# Altium schematic symbol library R0603.SchLib: 105 symbols (part 1 of 2)
Pins are listed as number, name and electrical type; pins without a type are passive.

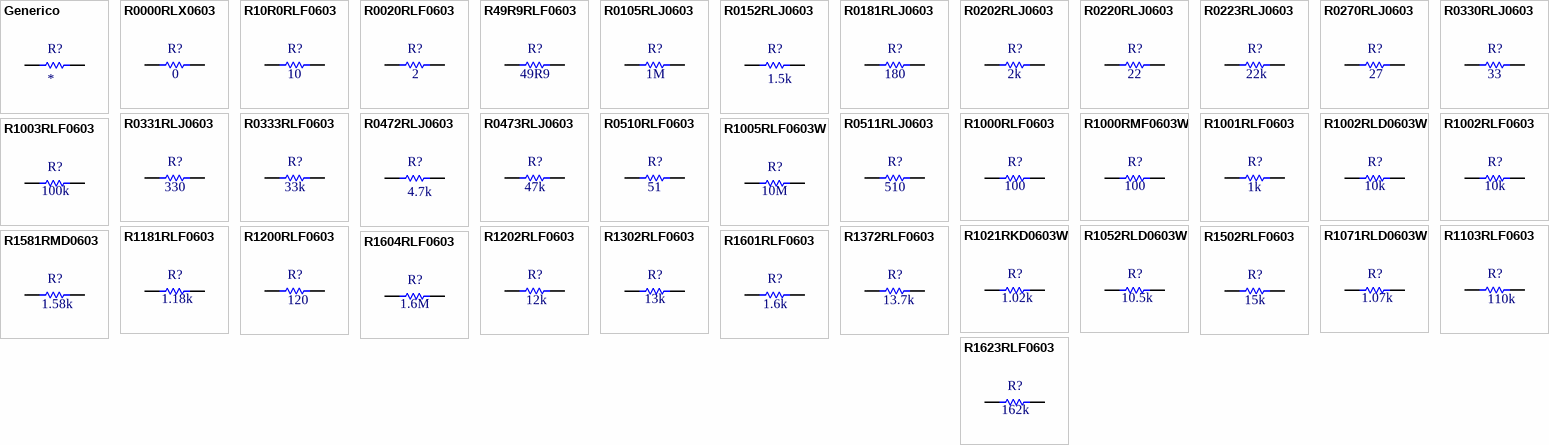
[diagram p0: symbols Generico to R1623RLF0603]

## Generico
designator R?
Frequency: NC; Manufacturer Part Number: *; Working Temperature: *; Temperature Coefficient: *; Mounting: *; Short Description: *; Power: *; Ratings: *; Type: NC; Alternate Part Number 1: *; Alternate Part Number 2: *; Manufacturer: *; Tolerance: *; Current: NC; Revision Date: *; Package Reference: *; Voltage: NC; Value: *
footprint R0603 (Footprint not found)
pins: 1, 2

## R0000RLX0603
designator R?  value 0
0 Ohms Jumper 0.1W, 1/10W Chip Resistor 0603 (1608 Metric) Automotive AEC-Q200 Thick Film; Manufacturer Part Number: ERJ-3GEY0R00V; Manufacturer: Panasonic Electronic Components; Working Temperature: -55°C ~ 155°C; Short Description: RES SMD 0 OHM JUMPER 1/10W 0603; Ratings: REACH, ROHS3, AEC-Q200; Frequency: NC; Temperature Coefficient: *; Mounting: SMT; Power: 1/10W; Type: NC; Alternate Part Number 1: *; Alternate Part Number 2: *; Tolerance: *; Current: NC; Revision Date: 02/08/21; Package Reference: 0603; Voltage: NC
footprint R0603 (Footprint not found)
pins: 1, 2

## R10R0RLF0603
designator R?  value 10
10 Ohms ±1% 0.1W, 1/10W Chip Resistor 0603 (1608 Metric) Automotive AEC-Q200 Thick Film; Manufacturer Part Number: ERJ-3EKF10R0V; Manufacturer: Panasonic Electronic Components; Working Temperature: -55°C ~ 155°C; Temperature Coefficient: ±100ppm/°C; Short Description: RES SMD 10 OHM 1% 1/10W 0603; Ratings: REACH, ROHS3, AEC-Q200; Frequency: NC; Mounting: SMT; Power: 1/10W; Type: NC; Alternate Part Number 1: *; Alternate Part Number 2: *; Tolerance: ±1%; Current: NC; Revision Date: 02/08/21; Package Reference: 0603; Voltage: NC
footprint R0603 (Footprint not found)
pins: 1, 2

## R0020RLF0603
designator R?  value 2
2 Ohms ±1% 0.1W, 1/10W Chip Resistor 0603 (1608 Metric) Automotive AEC-Q200 Thick Film; Manufacturer Part Number: CRCW06032R00FNEA; Manufacturer: Vishay Dale; Working Temperature: -55°C ~ 155°C; Temperature Coefficient: ±100ppm/°C; Short Description: RES SMD 2 OHM 1% 1/10W 0603; Ratings: REACH, ROHS3, AEC-Q200; Frequency: NC; Mounting: SMT; Power: 1/10W; Type: NC; Alternate Part Number 1: *; Alternate Part Number 2: *; Tolerance: ±1%; Current: NC; Revision Date: 02/08/21; Package Reference: 0603; Voltage: NC
footprint R0603 (Footprint not found)
pins: 1, 2

## R49R9RLF0603
designator R?  value 49R9
49.9 Ohms ±1% 0.1W, 1/10W Chip Resistor 0603 (1608 Metric) Automotive AEC-Q200 Thick Film; Manufacturer Part Number: ERJ-3EKF49R9V; Manufacturer: Panasonic Electronic Components; Working Temperature: -55°C ~ 155°C; Temperature Coefficient: ±100ppm/°C; Short Description: RES SMD 49.9 OHM 1% 1/10W 0603; Ratings: REACH, ROHS3, AEC-Q200; Frequency: NC; Mounting: SMT; Power: 1/10W; Type: NC; Alternate Part Number 1: *; Alternate Part Number 2: *; Tolerance: ±1%; Current: NC; Revision Date: 18/04/23; Package Reference: 0603; Voltage: NC
footprint R0603 (Footprint not found)
pins: 1, 2

## R0105RLJ0603
designator R?  value 1M
1 MOhms ±5% 0.1W, 1/10W Chip Resistor 0603 (1608 Metric) Automotive AEC-Q200 Thick Film; Manufacturer Part Number: ERJ-3GEYJ105V; Manufacturer: Panasonic Electronic Components; Working Temperature: -55°C ~ 155°C; Temperature Coefficient: ±200ppm/°C; Short Description: RES SMD 1M OHM 5% 1/10W 0603; Ratings: REACH, ROHS3, AEC-Q200; Frequency: NC; Mounting: SMT; Power: 1/10W; Type: NC; Alternate Part Number 1: *; Alternate Part Number 2: *; Tolerance: ±5%; Current: NC; Revision Date: 02/08/21; Package Reference: 0603; Voltage: NC
footprint R0603 (Footprint not found)
pins: 1, 2

## R0152RLJ0603
designator R?  value 1.5k
1.5 kOhms ±5% 0.1W, 1/10W Chip Resistor 0603 (1608 Metric) Automotive AEC-Q200 Thick Film; Manufacturer Part Number: ERJ-3GEYJ152V; Manufacturer: Panasonic Electronic Components; Working Temperature: -55°C ~ 155°C; Temperature Coefficient: ±200ppm/°C; Short Description: RES SMD 1.5K OHM 5% 1/10W 0603; Ratings: REACH, ROHS3, AEC-Q200; Frequency: NC; Mounting: SMT; Power: 1/10W; Type: NC; Alternate Part Number 1: *; Alternate Part Number 2: *; Tolerance: ±5%; Current: NC; Revision Date: 02/08/21; Package Reference: 0603; Voltage: NC
footprint R0603 (Footprint not found)
pins: 1, 2

## R0181RLJ0603
designator R?  value 180
180 Ohms ±5% 0.1W, 1/10W Chip Resistor 0603 (1608 Metric) Automotive AEC-Q200 Thick Film; Manufacturer Part Number: ERJ-3GEYJ181V; Manufacturer: Panasonic Electronic Components; Working Temperature: -55°C ~ 155°C; Temperature Coefficient: ±200ppm/°C; Short Description: RES SMD 180 OHM 5% 1/10W 0603; Ratings: REACH, ROHS3, AEC-Q200; Frequency: NC; Mounting: SMT; Power: 1/10W; Type: NC; Alternate Part Number 1: *; Alternate Part Number 2: *; Tolerance: ±5%; Current: NC; Revision Date: 02/08/21; Package Reference: 0603; Voltage: NC
footprint R0603 (Footprint not found)
pins: 1, 2

## R0202RLJ0603
designator R?  value 2k
2 kOhms ±5% 0.1W, 1/10W Chip Resistor 0603 (1608 Metric) Automotive AEC-Q200 Thick Film; Manufacturer Part Number: ERJ-3GEYJ202V; Manufacturer: Panasonic Electronic Components; Working Temperature: -55°C ~ 155°C; Temperature Coefficient: ±200ppm/°C; Short Description: RES SMD 2K OHM 5% 1/10W 0603; Ratings: REACH, ROHS3, AEC-Q200; Frequency: NC; Mounting: SMT; Power: 1/10W; Type: NC; Alternate Part Number 1: *; Alternate Part Number 2: *; Tolerance: ±5%; Current: NC; Revision Date: 02/08/21; Package Reference: 0603; Voltage: NC
footprint R0603 (Footprint not found)
pins: 1, 2

## R0220RLJ0603
designator R?  value 22
22 Ohms ±5% 0.1W, 1/10W Chip Resistor 0603 (1608 Metric) Automotive AEC-Q200 Thick Film; Manufacturer Part Number: ERJ-3GEYJ220V; Manufacturer: Panasonic Electronic Components; Working Temperature: -55°C ~ 155°C; Temperature Coefficient: ±200ppm/°C; Short Description: RES SMD 22 OHM 5% 1/10W 0603; Ratings: REACH, ROHS3, AEC-Q200; Frequency: NC; Mounting: SMT; Power: 1/10W; Type: NC; Alternate Part Number 1: *; Alternate Part Number 2: *; Tolerance: ±5%; Current: NC; Revision Date: 02/08/21; Package Reference: 0603; Voltage: NC
footprint R0603 (Footprint not found)
pins: 1, 2

## R0223RLJ0603
designator R?  value 22k
22 kOhms ±5% 0.1W, 1/10W Chip Resistor 0603 (1608 Metric) Automotive AEC-Q200 Thick Film; Manufacturer Part Number: ERJ-3GEYJ223V; Manufacturer: Panasonic Electronic Components; Working Temperature: -55°C ~ 155°C; Temperature Coefficient: ±200ppm/°C; Short Description: RES SMD 22K OHM 5% 1/10W 0603; Ratings: REACH, ROHS3, AEC-Q200; Frequency: NC; Mounting: SMT; Power: 1/10W; Type: NC; Alternate Part Number 1: *; Alternate Part Number 2: *; Tolerance: ±5%; Current: NC; Revision Date: 02/08/21; Package Reference: 0603; Voltage: NC
footprint R0603 (Footprint not found)
pins: 1, 2

## R0270RLJ0603
designator R?  value 27
27 Ohms ±5% 0.1W, 1/10W Chip Resistor 0603 (1608 Metric) Automotive AEC-Q200 Thick Film; Manufacturer Part Number: ERJ-3GEYJ270V; Manufacturer: Panasonic Electronic Components; Working Temperature: -55°C ~ 155°C; Temperature Coefficient: ±200ppm/°C; Short Description: RES SMD 27 OHM 5% 1/10W 0603; Ratings: REACH, ROHS3, AEC-Q200; Frequency: NC; Mounting: SMT; Power: 1/10W; Type: NC; Alternate Part Number 1: *; Alternate Part Number 2: *; Tolerance: ±5%; Current: NC; Revision Date: 02/08/21; Package Reference: 0603; Voltage: NC
footprint R0603 (Footprint not found)
pins: 1, 2

## R0330RLJ0603
designator R?  value 33
33 Ohms ±5% 0.1W, 1/10W Chip Resistor 0603 (1608 Metric) Automotive AEC-Q200 Thick Film; Manufacturer Part Number: ERJ-3GEYJ330V; Manufacturer: Panasonic Electronic Components; Working Temperature: -55°C ~ 155°C; Temperature Coefficient: ±200ppm/°C; Short Description: RES SMD 33 OHM 5% 1/10W 0603; Ratings: REACH, ROHS3, AEC-Q200; Frequency: NC; Mounting: SMT; Power: 1/10W; Type: NC; Alternate Part Number 1: *; Alternate Part Number 2: *; Tolerance: ±5%; Current: NC; Revision Date: 02/08/21; Package Reference: 0603; Voltage: NC
footprint R0603 (Footprint not found)
pins: 1, 2

## R0331RLJ0603
designator R?  value 330
330 Ohms ±5% 0.1W, 1/10W Chip Resistor 0603 (1608 Metric) Automotive AEC-Q200 Thick Film; Manufacturer Part Number: ERJ-3GEYJ331V; Manufacturer: Panasonic Electronic Components; Working Temperature: -55°C ~ 155°C; Temperature Coefficient: ±200ppm/°C; Short Description: RES SMD 330 OHM 5% 1/10W 0603; Ratings: REACH, ROHS3, AEC-Q200; Frequency: NC; Mounting: SMT; Power: 1/10W; Type: NC; Alternate Part Number 1: *; Alternate Part Number 2: *; Tolerance: ±5%; Current: NC; Revision Date: 02/08/21; Package Reference: 0603; Voltage: NC
footprint R0603 (Footprint not found)
pins: 1, 2

## R0333RLF0603
designator R?  value 33k
33 kOhms ±1% 0.1W, 1/10W Chip Resistor 0603 (1608 Metric) Automotive AEC-Q200 Thick Film; Manufacturer Part Number: RMCF0603FT33K0; Manufacturer: Stackpole Electronics Inc; Working Temperature: -55°C ~ 155°C; Temperature Coefficient: ±100ppm/°C; Short Description: RES 33K OHM 1% 1/10W 0603; Ratings: REACH, ROHS3, AEC-Q200; Frequency: NC; Mounting: SMT; Power: 1/10W; Type: NC; Alternate Part Number 1: *; Alternate Part Number 2: *; Tolerance: ±1%; Current: NC; Revision Date: 21/09/21; Package Reference: 0603; Voltage: NC
footprint R0603 (Footprint not found)
pins: 1, 2

## R0472RLJ0603
designator R?  value 4.7k
4.7 kOhms ±5% 0.1W, 1/10W Chip Resistor 0603 (1608 Metric) Automotive AEC-Q200 Thick Film; Manufacturer Part Number: ERJ-3GEYJ472V; Manufacturer: Panasonic Electronic Components; Working Temperature: -55°C ~ 155°C; Temperature Coefficient: ±200ppm/°C; Short Description: RES SMD 4.7K OHM 5% 1/10W 0603; Ratings: REACH, ROHS3, AEC-Q200; Frequency: NC; Mounting: SMT; Power: 1/10W; Type: NC; Alternate Part Number 1: *; Alternate Part Number 2: *; Tolerance: ±5%; Current: NC; Revision Date: 20/08/21; Package Reference: 0603; Voltage: NC
footprint R0603 (Footprint not found)
pins: 1, 2

## R0473RLJ0603
designator R?  value 47k
47 kOhms ±5% 0.1W, 1/10W Chip Resistor 0603 (1608 Metric) Automotive AEC-Q200 Thick Film; Manufacturer Part Number: ERJ-3GEYJ473V; Manufacturer: Panasonic Electronic Components; Working Temperature: -55°C ~ 155°C; Temperature Coefficient: ±200ppm/°C; Short Description: RES SMD 47K OHM 5% 1/10W 0603; Ratings: REACH, ROHS3, AEC-Q200; Frequency: NC; Mounting: SMT; Power: 1/10W; Type: NC; Alternate Part Number 1: *; Alternate Part Number 2: *; Tolerance: ±5%; Current: NC; Revision Date: 02/08/21; Package Reference: 0603; Voltage: NC
footprint R0603 (Footprint not found)
pins: 1, 2

## R0510RLF0603
designator R?  value 51
51 Ohms ±1% 0.1W, 1/10W Chip Resistor 0603 (1608 Metric) Automotive AEC-Q200 Thick Film; Manufacturer Part Number: ERJ-3EKF51R0V; Manufacturer: Panasonic Electronic Components; Working Temperature: -55°C ~ 155°C; Temperature Coefficient: ±100ppm/°C; Short Description: RES SMD 51 OHM 1% 1/10W 0603; Ratings: REACH, ROHS3, AEC-Q200; Frequency: NC; Mounting: SMT; Power: 1/10W; Type: NC; Alternate Part Number 1: ERJ-3EKF51R0V; Alternate Part Number 2: *; Tolerance: ±1%; Current: NC; Revision Date: 02/08/21; Package Reference: 0603; Voltage: NC
footprint R0603 (Footprint not found)
pins: 1, 2

## R0511RLJ0603
designator R?  value 510
510 Ohms ±5% 0.1W, 1/10W Chip Resistor 0603 (1608 Metric) Automotive AEC-Q200 Thick Film; Manufacturer Part Number: ERJ-3GEYJ511V; Manufacturer: Panasonic Electronic Components; Working Temperature: -55°C ~ 155°C; Temperature Coefficient: ±200ppm/°C; Short Description: RES SMD 510 OHM 5% 1/10W 0603; Ratings: REACH, ROHS3, AEC-Q200; Frequency: NC; Mounting: SMT; Power: 1/10W; Type: NC; Alternate Part Number 1: *; Alternate Part Number 2: *; Tolerance: ±5%; Current: NC; Revision Date: 02/08/21; Package Reference: 0603; Voltage: NC
footprint R0603 (Footprint not found)
pins: 1, 2

## R1000RLF0603
designator R?  value 100
100 Ohms ±1% 0.1W, 1/10W Chip Resistor 0603 (1608 Metric) Automotive AEC-Q200 Thick Film; Manufacturer Part Number: ERJ-3EKF1000V; Manufacturer: Panasonic Electronic Components; Working Temperature: -55°C ~ 155°C; Temperature Coefficient: ±100ppm/°C; Short Description: RES SMD 100 OHM 5% 1/10W 0603; Ratings: REACH, ROHS3, AEC-Q200; Frequency: NC; Mounting: SMT; Power: 1/10W; Type: NC; Alternate Part Number 1: *; Alternate Part Number 2: *; Tolerance: ±1%; Current: NC; Revision Date: 02/08/21; Package Reference: 0603; Voltage: NC
footprint R0603 (Footprint not found)
pins: 1, 2

## R1000RMF0603W
designator R?  value 100
100 Ohms ±1% 0.125W, 1/8W Chip Resistor 0603 (1608 Metric) Anti-Sulfur Thin Film; Manufacturer Part Number: RNCP0603FTD100R; Manufacturer: Stackpole Electronics Inc; Working Temperature: -55°C ~ 155°C; Temperature Coefficient: ±100ppm/°C; Short Description: RES 100 OHM 1% 1/8W 0603; Ratings: REACH, ROHS3; Frequency: NC; Mounting: SMT; Power: 1/8W; Type: NC; Alternate Part Number 1: *; Alternate Part Number 2: *; Tolerance: ±1%; Current: NC; Revision Date: 16/11/21; Package Reference: 0603; Voltage: NC
footprint R0603 (Footprint not found)
pins: 1, 2

## R1001RLF0603
designator R?  value 1k
1 kOhms ±1% 0.1W, 1/10W Chip Resistor 0603 (1608 Metric) Automotive AEC-Q200 Thick Film; Manufacturer Part Number: ERJ-3EKF1001V; Manufacturer: Panasonic Electronic Components; Working Temperature: -55°C ~ 155°C; Temperature Coefficient: ±100ppm/°C; Short Description: RES SMD 1K OHM 1% 1/10W 0603; Ratings: REACH, ROHS3, AEC-Q200; Frequency: NC; Mounting: SMT; Power: 1/10W; Type: NC; Alternate Part Number 1: *; Alternate Part Number 2: *; Tolerance: ±1%; Current: NC; Revision Date: 02/08/21; Package Reference: 0603; Voltage: NC
footprint R0603 (Footprint not found)
pins: 1, 2

## R1002RLD0603W
designator R?  value 10k
10 kOhms ±0.5% 0.1W, 1/10W Chip Resistor 0603 (1608 Metric) - Thin Film; Manufacturer Part Number: RT0603DRD0710KL; Manufacturer: Yageo; Working Temperature: -55°C ~ 155°C; Temperature Coefficient: ±25ppm/°C; Short Description: RES SMD 10K OHM 0.5% 1/10W 0603; Ratings: REACH, ROHS3; Frequency: NC; Mounting: SMT; Power: 1/10W; Type: NC; Alternate Part Number 1: *; Alternate Part Number 2: *; Tolerance: ±0.5%; Current: NC; Revision Date: 02/08/21; Package Reference: 0603; Voltage: NC
footprint R0603 (Footprint not found)
pins: 1, 2

## R1002RLF0603
designator R?  value 10k
10 kOhms ±1% 0.1W, 1/10W Chip Resistor 0603 (1608 Metric) Automotive AEC-Q200 Thick Film; Manufacturer Part Number: ERJ-3EKF1002V; Manufacturer: Panasonic Electronic Components; Working Temperature: -55°C ~ 155°C; Temperature Coefficient: ±100ppm/°C; Short Description: RES SMD 10K OHM 1% 1/10W 0603; Ratings: REACH, ROHS3, AEC-Q200; Frequency: NC; Mounting: SMT; Power: 1/10W; Type: NC; Alternate Part Number 1: *; Alternate Part Number 2: *; Tolerance: ±1%; Current: NC; Revision Date: 02/08/21; Package Reference: 0603; Voltage: NC
footprint R0603 (Footprint not found)
pins: 1, 2

## R1003RLF0603
designator R?  value 100k
100 kOhms ±1% 0.1W, 1/10W Chip Resistor 0603 (1608 Metric) Automotive AEC-Q200 Thick Film; Manufacturer Part Number: ERJ-3EKF1003V; Manufacturer: Panasonic Electronic Components; Working Temperature: -55°C ~ 155°C; Temperature Coefficient: ±100ppm/°C; Short Description: RES SMD 100K OHM 1% 1/10W 0603; Ratings: REACH, ROHS3, AEC-Q200; Frequency: NC; Mounting: SMT; Power: 1/10W; Type: NC; Alternate Part Number 1: *; Alternate Part Number 2: *; Tolerance: ±1%; Current: NC; Revision Date: 02/08/21; Package Reference: 0603; Voltage: NC
footprint R0603 (Footprint not found)
pins: 1, 2

## R1005RLF0603W
designator R?  value 10M
10 MOhms ±1% 0.1W, 1/10W Chip Resistor 0603 (1608 Metric) Moisture Resistant Thick Film; Manufacturer Part Number: RC0603FR-0710ML; Manufacturer: Yageo; Working Temperature: -55°C ~ 155°C; Temperature Coefficient: ±100ppm/°C; Short Description: RES SMD 10M OHM 1% 1/10W 0603; Ratings: REACH, ROHS3; Frequency: NC; Mounting: SMT; Power: 1/10W; Type: NC; Alternate Part Number 1: *; Alternate Part Number 2: *; Tolerance: ±1%; Current: NC; Revision Date: 02/08/21; Package Reference: 0603; Voltage: NC
footprint R0603 (Footprint not found)
pins: 1, 2

## R1021RKD0603W
designator R?  value 1.02k
1.02 kOhms ±0.5% 0.063W, 1/16W Chip Resistor 0603 (1608 Metric) - Thin Film; Manufacturer Part Number: RR0816P-1021-D-02H; Manufacturer: Susumu; Working Temperature: -55°C ~ 155°C; Temperature Coefficient: ±25ppm/°C; Short Description: RES SMD 1.02KOHM 0.5% 1/16W 0603; Power: 1/10W; Ratings: REACH, ROHS3; Frequency: NC; Mounting: SMT; Type: NC; Alternate Part Number 1: *; Alternate Part Number 2: *; Tolerance: ±0.5%; Current: NC; Revision Date: 02/08/21; Package Reference: 0603; Voltage: NC
footprint R0603 (Footprint not found)
pins: 1, 2

## R1052RLD0603W
designator R?  value 10.5k  (hidden comment: R1052RLD0603W)
10.5 kOhms ±0.5% 0.1W, 1/10W Chip Resistor 0603 (1608 Metric) - Thin Film; Manufacturer Part Number: RT0603DRD0710K5L; Manufacturer: Yageo; Working Temperature: -55°C ~ 155°C; Temperature Coefficient: ±25ppm/°C; Short Description: RES 10.5K OHM 1/10W .5% 0603; Ratings: REACH, ROHS3; Frequency: NC; Mounting: SMT; Power: 1/10W; Type: NC; Alternate Part Number 1: *; Alternate Part Number 2: *; Tolerance: ±0.5%; Current: NC; Revision Date: 02/08/21; Package Reference: 0603; Voltage: NC
footprint R0603 (Footprint not found)
pins: 1, 2

## R1071RLD0603W
designator R?  value 1.07k
1.07 kOhms ±0.5% 0.1W, 1/10W Chip Resistor 0603 (1608 Metric) - Thin Film; Manufacturer Part Number: RT0603DRD071K07L; Manufacturer: Yageo; Working Temperature: -55°C ~ 155°C; Temperature Coefficient: ±25ppm/°C; Short Description: RES SMD 1.07KOHM 0.5% 1/10W 0603; Ratings: REACH, ROHS3; Frequency: NC; Mounting: SMT; Power: 1/10W; Type: NC; Alternate Part Number 1: *; Alternate Part Number 2: *; Tolerance: ±0.5%; Current: NC; Revision Date: 02/08/21; Package Reference: 0603; Voltage: NC
footprint R0603 (Footprint not found)
pins: 1, 2

## R1103RLF0603
designator R?  value 110k
110 kOhms ±1% 0.1W, 1/10W Chip Resistor 0603 (1608 Metric) Anti-Sulfur, Automotive AEC-Q200 Thick Film; Manufacturer Part Number: ERJ-U03F1103V; Manufacturer: Panasonic Electronic Components; Working Temperature: -55°C ~ 155°C; Temperature Coefficient: ±100ppm/°C; Short Description: RES 110K OHM 1% 1/10W 0603 SMD; Ratings: REACH, ROHS3, AEC-Q200; Frequency: NC; Mounting: SMT; Power: 1/10W; Type: NC; Alternate Part Number 1: *; Alternate Part Number 2: *; Tolerance: ±1%; Current: NC; Revision Date: 20/09/21; Package Reference: 0603; Voltage: NC
footprint R0603 (Footprint not found)
pins: 1, 2

## R1181RLF0603
designator R?  value 1.18k
1.18 kOhms ±1% 0.1W, 1/10W Chip Resistor 0603 (1608 Metric) Automotive AEC-Q200 Thick Film; Manufacturer Part Number: ERJ-3EKF1181V; Manufacturer: Panasonic Electronic Components; Working Temperature: -55°C ~ 155°C; Temperature Coefficient: ±100ppm/°C; Short Description: RES SMD 1.18K OHM 1% 1/10W 0603; Ratings: REACH, ROHS3, AEC-Q200; Frequency: NC; Mounting: SMT; Power: 1/10W; Type: NC; Alternate Part Number 1: *; Alternate Part Number 2: *; Tolerance: ±1%; Current: NC; Revision Date: 02/08/21; Package Reference: 0603; Voltage: NC
footprint R0603 (Footprint not found)
pins: 1, 2

## R1200RLF0603
designator R?  value 120
120 Ohms ±1% 0.1W, 1/10W Chip Resistor 0603 (1608 Metric) Automotive AEC-Q200 Thick Film; Manufacturer Part Number: ERJ-3EKF1200V; Manufacturer: Panasonic Electronic Components; Working Temperature: -55°C ~ 155°C; Temperature Coefficient: ±100ppm/°C; Short Description: RES SMD 120 OHM 1% 1/10W 0603; Ratings: REACH, ROHS3, AEC-Q200; Frequency: NC; Mounting: SMT; Power: 1/10W; Type: NC; Alternate Part Number 1: *; Alternate Part Number 2: *; Tolerance: ±1%; Current: NC; Revision Date: 19/10/22; Package Reference: 0603; Voltage: NC
footprint R0603 (Footprint not found)
pins: 1, 2

## R1202RLF0603
designator R?  value 12k
12 kOhms ±1% 0.1W, 1/10W Chip Resistor 0603 (1608 Metric) Automotive AEC-Q200 Thick Film; Manufacturer Part Number: ERJ-3EKF1202V; Manufacturer: Panasonic Electronic Components; Working Temperature: -55°C ~ 155°C; Temperature Coefficient: ±100ppm/°C; Short Description: RES SMD 12K OHM 1% 1/10W 0603; Ratings: REACH, ROHS3, AEC-Q200; Frequency: NC; Mounting: SMT; Power: 1/10W; Type: NC; Alternate Part Number 1: *; Alternate Part Number 2: *; Tolerance: ±1%; Current: NC; Revision Date: 02/08/21; Package Reference: 0603; Voltage: NC
footprint R0603 (Footprint not found)
pins: 1, 2

## R1302RLF0603
designator R?  value 13k
13 kOhms ±1% 0.1W, 1/10W Chip Resistor 0603 (1608 Metric) Automotive AEC-Q200 Thick Film; Manufacturer Part Number: ERJ-3EKF1302V; Manufacturer: Panasonic Electronic Components; Working Temperature: -55°C ~ 155°C; Temperature Coefficient: ±100ppm/°C; Short Description: RES SMD 13K OHM 1% 1/10W 0603; Ratings: REACH, ROHS3, AEC-Q200; Frequency: NC; Mounting: SMT; Power: 1/10W; Type: NC; Alternate Part Number 1: *; Alternate Part Number 2: *; Tolerance: ±1%; Current: NC; Revision Date: 02/08/21; Package Reference: 0603; Voltage: NC
footprint R0603 (Footprint not found)
pins: 1, 2

## R1372RLF0603
designator R?  value 13.7k
13.7 kOhms ±1% 0.1W, 1/10W Chip Resistor 0603 (1608 Metric) Automotive AEC-Q200 Thick Film; Manufacturer Part Number: RMCF0603FT13K7; Alternate Part Number 1: RCS060313K7FKEA; Manufacturer: Stackpole Electronics Inc; Working Temperature: -55°C ~ 155°C; Temperature Coefficient: ±100ppm/°C; Short Description: RES 13.7K OHM 1% 1/10W 0603; Ratings: REACH, ROHS3, AEC-Q200; Frequency: NC; Mounting: SMT; Power: 1/10W; Type: NC; Alternate Part Number 2: *; Tolerance: ±1%; Current: NC; Revision Date: 21/10/21; Package Reference: 0603; Voltage: NC
footprint R0603 (Footprint not found)
pins: 1, 2

## R1502RLF0603
designator R?  value 15k
15 kOhms ±1% 0.1W, 1/10W Chip Resistor 0603 (1608 Metric) Automotive AEC-Q200 Thick Film; Manufacturer Part Number: ERJ-3EKF1502V; Manufacturer: Panasonic Electronic Components; Working Temperature: -55°C ~ 155°C; Temperature Coefficient: ±100ppm/°C; Short Description: RES 15K OHM 1/10W 1% 0603; Ratings: REACH, ROHS3, AEC-Q200; Frequency: NC; Mounting: SMT; Power: 1/10W; Type: NC; Alternate Part Number 1: *; Alternate Part Number 2: *; Tolerance: ±1%; Current: NC; Revision Date: 02/08/21; Package Reference: 0603; Voltage: NC
footprint R0603 (Footprint not found)
pins: 1, 2

## R1581RMD0603
designator R?  value 1.58k
1.58 kOhms ±0.5% 0.2W, 1/5W Chip Resistor 0603 (1608 Metric) Automotive AEC-Q200, Pulse Withstanding Thick Film; Manufacturer Part Number: ERJ-PB3D1581V; Manufacturer: Panasonic Electronic Components; Working Temperature: -55°C ~ 155°C; Temperature Coefficient: ±25ppm/°C; Short Description: RES SMD 1.58K OHM 0.5% 1/5W 0603; Ratings: REACH, ROHS3, AEC-Q200; Frequency: NC; Mounting: SMT; Power: 1/5W; Type: NC; Alternate Part Number 1: *; Alternate Part Number 2: *; Tolerance: ±0.5%; Current: NC; Revision Date: 02/08/21; Package Reference: 0603; Voltage: NC
footprint R0603 (Footprint not found)
pins: 1, 2

## R1601RLF0603
designator R?  value 1.6k
1.6 kOhms ±1% 0.1W, 1/10W Chip Resistor 0603 (1608 Metric) Automotive AEC-Q200 Thick Film; Manufacturer Part Number: ERJ-3EKF1601V; Manufacturer: Panasonic Electronic Components; Working Temperature: -55°C ~ 155°C; Temperature Coefficient: ±100ppm/°C; Short Description: RES SMD 1.6K OHM 1% 1/10W 0603; Ratings: REACH, ROHS3, AEC-Q200; Frequency: NC; Mounting: SMT; Power: 1/10W; Type: NC; Alternate Part Number 1: *; Alternate Part Number 2: *; Tolerance: ±1%; Current: NC; Revision Date: 02/08/21; Package Reference: 0603; Voltage: NC
footprint R0603 (Footprint not found)
pins: 1, 2

## R1604RLF0603
designator R?  value 1.6M
1.6 MOhms ±1% 0.1W, 1/10W Chip Resistor 0603 (1608 Metric) Automotive AEC-Q200 Thick Film; Manufacturer Part Number: ERJ-3EKF1604V; Manufacturer: Panasonic Electronic Components; Working Temperature: -55°C ~ 155°C; Temperature Coefficient: ±100ppm/°C; Short Description: RES SMD 1.6M OHM 1% 1/10W 0603; Ratings: REACH, ROHS3, AEC-Q200; Frequency: NC; Mounting: SMT; Power: 1/10W; Type: NC; Alternate Part Number 1: *; Alternate Part Number 2: *; Tolerance: ±1%; Current: NC; Revision Date: 02/08/21; Package Reference: 0603; Voltage: NC
footprint R0603 (Footprint not found)
pins: 1, 2

## R1623RLF0603
designator R?  value 162k
162 kOhms ±1% 0.1W, 1/10W Chip Resistor 0603 (1608 Metric) Automotive AEC-Q200 Thick Film; Manufacturer Part Number: ERJ-3EKF1623V; Manufacturer: Panasonic Electronic Components; Working Temperature: -55°C ~ 155°C; Temperature Coefficient: ±100ppm/°C; Short Description: RES SMD 162K OHM 1% 1/10W 0603; Ratings: REACH, ROHS3, AEC-Q200; Frequency: NC; Mounting: SMT; Power: 1/10W; Type: NC; Alternate Part Number 1: *; Alternate Part Number 2: *; Tolerance: ±1%; Current: NC; Revision Date: 02/08/21; Package Reference: 0603; Voltage: NC
footprint R0603 (Footprint not found)
pins: 1, 2

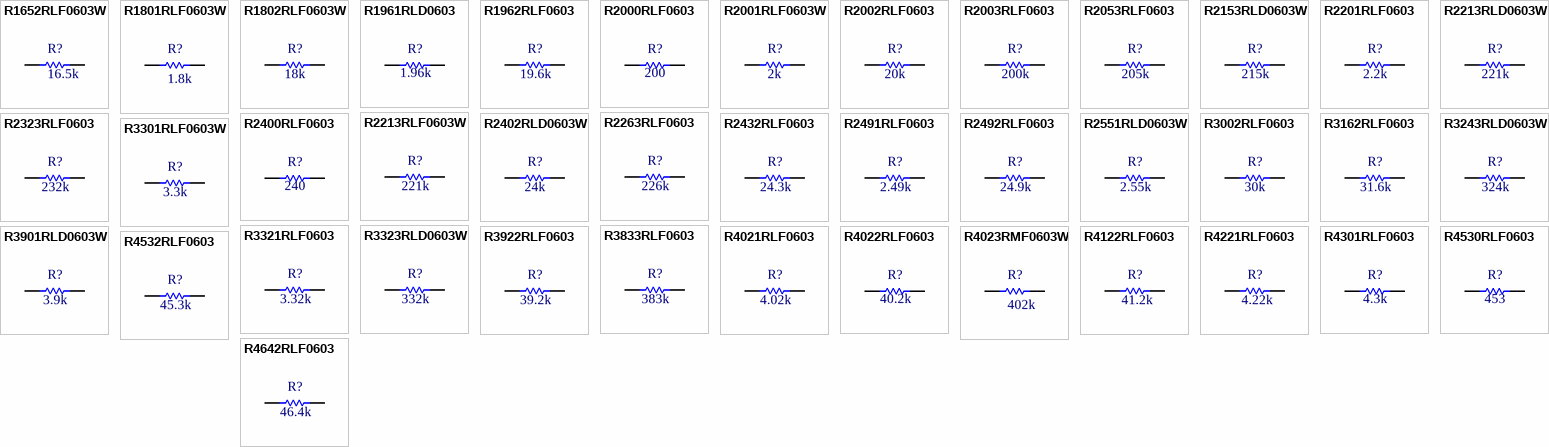
[diagram p1: symbols R1652RLF0603W to R4642RLF0603]

## R1652RLF0603W
designator R?  value 16.5k
16.5 ±1% 0.1W, 1/10W Chip Resistor 0603 (1608 Metric) Moisture Resistant Thick Film; Manufacturer Part Number: RC0603FR-0716K5L; Manufacturer: YAGEO; Working Temperature: -55°C ~ 155°C; Temperature Coefficient: ±100ppm/°C; Short Description: RES 16.5K OHM 1% 1/10W 0603; Ratings: REACH, ROHS3; Frequency: NC; Mounting: SMT; Power: 1/10W; Type: NC; Alternate Part Number 1: *; Alternate Part Number 2: *; Tolerance: ±1%; Current: NC; Revision Date: 20/09/21; Package Reference: 0603; Voltage: NC
footprint R0603 (Footprint not found)
pins: 1, 2

## R1801RLF0603W
designator R?  value 1.8k
1.8 kOhms ±1% 0.1W, 1/10W Chip Resistor 0603 (1608 Metric) Moisture Resistant Thick Film; Manufacturer Part Number: RC0603FR-071K8L; Manufacturer: Yageo; Working Temperature: -55°C ~ 155°C; Temperature Coefficient: ±100ppm/°C; Short Description: RES SMD 1.8K OHM 1% 1/10W 0603; Ratings: REACH, ROHS3; Frequency: NC; Mounting: SMT; Power: 1/10W; Type: NC; Alternate Part Number 1: *; Alternate Part Number 2: *; Tolerance: ±1%; Current: NC; Revision Date: 23/08/21; Package Reference: 0603; Voltage: NC
footprint R0603 (Footprint not found)
pins: 1, 2

## R1802RLF0603W
designator R?  value 18k
18 kOhms ±1% 0.1W, 1/10W Chip Resistor 0603 (1608 Metric) Moisture Resistant Thick Film; Manufacturer Part Number: RC0603FR-0718KL; Manufacturer: Yageo; Working Temperature: -55°C ~ 155°C; Temperature Coefficient: ±100ppm/°C; Short Description: RES SMD 18K OHM 1% 1/10W 0603; Ratings: REACH, ROHS3; Frequency: NC; Mounting: SMT; Power: 1/10W; Type: NC; Alternate Part Number 1: *; Alternate Part Number 2: *; Tolerance: ±1%; Current: NC; Revision Date: 02/08/21; Package Reference: 0603; Voltage: NC
footprint R0603 (Footprint not found)
pins: 1, 2

## R1961RLD0603
designator R?  value 1.96k
1.96 kOhms ±0.5% 0.1W, 1/10W Chip Resistor 0603 (1608 Metric) Automotive AEC-Q200 Thin Film; Manufacturer Part Number: ERA-3AED1961V; Manufacturer: Panasonic Electronic Components; Working Temperature: -55°C ~ 155°C; Temperature Coefficient: ±25ppm/°C; Short Description: RES SMD 1.96KOHM 0.5% 1/10W 0603; Ratings: REACH, ROHS3, AEC-Q200; Frequency: NC; Mounting: SMT; Power: 1/10W; Type: NC; Alternate Part Number 1: *; Alternate Part Number 2: *; Tolerance: ±0.5%; Current: NC; Revision Date: 02/08/21; Package Reference: 0603; Voltage: NC
footprint R0603 (Footprint not found)
pins: 1, 2

## R1962RLF0603
designator R?  value 19.6k
19.6 kOhms ±1% 0.1W, 1/10W Chip Resistor 0603 (1608 Metric) Automotive AEC-Q200 Thick Film; Manufacturer Part Number: ERJ-3EKF1962V; Manufacturer: Panasonic Electronic Components; Working Temperature: -55°C ~ 155°C; Temperature Coefficient: ±100ppm/°C; Short Description: RES SMD 19.6K OHM 1% 1/10W 0603; Ratings: REACH, ROHS3, AEC-Q200; Frequency: NC; Mounting: SMT; Power: 1/10W; Type: NC; Alternate Part Number 1: *; Alternate Part Number 2: *; Tolerance: ±1%; Current: NC; Revision Date: 02/08/21; Package Reference: 0603; Voltage: NC
footprint R0603 (Footprint not found)
pins: 1, 2

## R2000RLF0603
designator R?  value 200
200 Ohms ±1% 0.1W, 1/10W Chip Resistor 0603 (1608 Metric) Automotive AEC-Q200 Thick Film; Manufacturer Part Number: ERJ-3EKF2000V; Manufacturer: Panasonic Electronic Components; Working Temperature: -55°C ~ 155°C; Temperature Coefficient: ±100ppm/°C; Short Description: RES SMD 200 OHM 1% 1/10W 0603; Ratings: REACH, ROHS3, AEC-Q200; Frequency: NC; Mounting: SMT; Power: 1/10W; Type: NC; Alternate Part Number 1: *; Alternate Part Number 2: *; Tolerance: ±1%; Current: NC; Revision Date: 02/08/21; Package Reference: 0603; Voltage: NC
footprint R0603 (Footprint not found)
pins: 1, 2

## R2001RLF0603W
designator R?  value 2k
2 kOhms ±1% 0.1W, 1/10W Chip Resistor 0603 (1608 Metric) Moisture Resistant Thick Film; Manufacturer Part Number: RC0603FR-072KL; Manufacturer: Yageo; Working Temperature: -55°C ~ 155°C; Temperature Coefficient: ±100ppm/°C; Short Description: RES SMD 2K OHM 1% 1/10W 0603; Ratings: REACH, ROHS3; Frequency: NC; Mounting: SMT; Power: 1/10W; Type: NC; Alternate Part Number 1: *; Alternate Part Number 2: *; Tolerance: ±1%; Current: NC; Revision Date: 02/08/21; Package Reference: 0603; Voltage: NC
footprint R0603 (Footprint not found)
pins: 1, 2

## R2002RLF0603
designator R?  value 20k
20 kOhms ±1% 0.1W, 1/10W Chip Resistor 0603 (1608 Metric) Automotive AEC-Q200 Thick Film; Manufacturer Part Number: ERJ-3EKF2002V; Manufacturer: Panasonic Electronic Components; Working Temperature: -55°C ~ 155°C; Temperature Coefficient: ±100ppm/°C; Short Description: RES SMD 20K OHM 1% 1/10W 0603; Ratings: REACH, ROHS3, AEC-Q200; Frequency: NC; Mounting: SMT; Power: 1/10W; Type: NC; Alternate Part Number 1: *; Alternate Part Number 2: *; Tolerance: ±1%; Current: NC; Revision Date: 02/08/21; Package Reference: 0603; Voltage: NC
footprint R0603 (Footprint not found)
pins: 1, 2

## R2003RLF0603
designator R?  value 200k
200 kOhms ±1% 0.1W, 1/10W Chip Resistor 0603 (1608 Metric) Automotive AEC-Q200 Thick Film; Manufacturer Part Number: ERJ-3EKF2003V; Manufacturer: Panasonic Electronic Components; Working Temperature: -55°C ~ 155°C; Temperature Coefficient: ±100ppm/°C; Short Description: RES SMD 200K OHM 1% 1/10W 0603; Ratings: REACH, ROHS3, AEC-Q200; Frequency: NC; Mounting: SMT; Power: 1/10W; Type: NC; Alternate Part Number 1: *; Alternate Part Number 2: *; Tolerance: ±1%; Current: NC; Revision Date: 02/08/21; Package Reference: 0603; Voltage: NC
footprint R0603 (Footprint not found)
pins: 1, 2

## R2053RLF0603
designator R?  value 205k
205 kOhms ±1% 0.1W, 1/10W Chip Resistor 0603 (1608 Metric) Automotive AEC-Q200 Thick Film; Manufacturer Part Number: ERJ-3EKF2053V; Manufacturer: Panasonic Electronic Components; Working Temperature: -55°C ~ 155°C; Temperature Coefficient: ±100ppm/°C; Short Description: RES SMD 205K OHM 1% 1/10W 0603; Ratings: REACH, ROHS3, AEC-Q200; Frequency: NC; Mounting: SMT; Power: 1/10W; Type: NC; Alternate Part Number 1: *; Alternate Part Number 2: *; Tolerance: ±1%; Current: NC; Revision Date: 09/05/23; Package Reference: 0603; Voltage: NC
footprint R0603 (Footprint not found)
pins: 1, 2

## R2153RLD0603W
designator R?  value 215k
215 kOhms ±0.5% 0.1W, 1/10W Chip Resistor 0603 (1608 Metric) - Thin Film; Manufacturer Part Number: RT0603DRD07215KL; Manufacturer: Yageo; Working Temperature: -55°C ~ 155°C; Temperature Coefficient: ±25ppm/°C; Short Description: RES SMD 215K OHM 0.5% 1/10W 0603; Ratings: REACH, ROHS3; Frequency: NC; Mounting: SMT; Power: 1/10W; Type: NC; Alternate Part Number 1: *; Alternate Part Number 2: *; Tolerance: ±0.5%; Current: NC; Revision Date: 02/08/21; Package Reference: 0603; Voltage: NC
footprint R0603 (Footprint not found)
pins: 1, 2

## R2201RLF0603
designator R?  value 2.2k
2.2 kOhms ±1% 0.1W, 1/10W Chip Resistor 0603 (1608 Metric) Automotive AEC-Q200 Thick Film; Manufacturer Part Number: ERJ-3EKF2201V; Manufacturer: Panasonic Electronic Components; Working Temperature: -55°C ~ 155°C; Temperature Coefficient: ±100ppm/°C; Short Description: RES SMD 2.2K OHM 1% 1/10W 0603; Ratings: REACH, ROHS3, AEC-Q200; Frequency: NC; Mounting: SMT; Power: 1/10W; Type: NC; Alternate Part Number 1: *; Alternate Part Number 2: *; Tolerance: ±1%; Current: NC; Revision Date: 02/08/21; Package Reference: 0603; Voltage: NC
footprint R0603 (Footprint not found)
pins: 1, 2

## R2213RLD0603W
designator R?  value 221k
221 kOhms ±0.5% 0.1W, 1/10W Chip Resistor 0603 (1608 Metric) - Thin Film; Manufacturer Part Number: RT0603DRD07221KL; Manufacturer: Yageo; Working Temperature: -55°C ~ 155°C; Temperature Coefficient: ±25ppm/°C; Short Description: RES SMD 221K OHM 0.5% 1/10W 0603; Ratings: REACH, ROHS3; Frequency: NC; Mounting: SMT; Power: 1/10W; Type: NC; Alternate Part Number 1: *; Alternate Part Number 2: *; Tolerance: ±0.5%; Current: NC; Revision Date: 02/08/21; Package Reference: 0603; Voltage: NC
footprint R0603 (Footprint not found)
pins: 1, 2

## R2213RLF0603W
designator R?  value 221k
221 kOhms ±1% 0.1W, 1/10W Chip Resistor 0603 (1608 Metric) Moisture Resistant Thick Film; Manufacturer Part Number: RC0603FR-07221KL; Manufacturer: Yageo; Working Temperature: -55°C ~ 155°C; Temperature Coefficient: ±100ppm/°C; Short Description: RES SMD 221K OHM 1% 1/10W 0603; Ratings: REACH, ROHS3; Frequency: NC; Mounting: SMT; Power: 1/10W; Type: NC; Alternate Part Number 1: *; Alternate Part Number 2: *; Tolerance: ±1%; Current: NC; Revision Date: 02/08/21; Package Reference: 0603; Voltage: NC
footprint R0603 (Footprint not found)
pins: 1, 2

## R2263RLF0603
designator R?  value 226k  (hidden comment: R2263RLF0603)
226 kOhms ±1% 0.1W, 1/10W Chip Resistor 0603 (1608 Metric) Moisture Resistant Thick Film; Manufacturer Part Number: ERJ-3EKF2263V; Manufacturer: Panasonic; Working Temperature: -55°C ~ 155°C; Temperature Coefficient: ±100ppm/°C; Short Description: RES 226K OHM 1/10W 1% 0603; Ratings: REACH, ROHS3; Frequency: NC; Mounting: SMT; Power: 1/10W; Type: NC; Alternate Part Number 1: *; Alternate Part Number 2: *; Tolerance: ±1%; Current: NC; Revision Date: 02/08/21; Package Reference: 0603; Voltage: NC
footprint R0603 (Footprint not found)
pins: 1, 2

## R2323RLF0603
designator R?  value 232k
232 kOhms ±1% 0.1W, 1/10W Chip Resistor 0603 (1608 Metric) Automotive AEC-Q200 Thick Film; Manufacturer Part Number: ERJ-3EKF2323V; Manufacturer: Panasonic Electronic Components; Working Temperature: -55°C ~ 155°C; Temperature Coefficient: ±100ppm/°C; Short Description: RES SMD 232K OHM 1% 1/10W 0603; Ratings: REACH, ROHS3, AEC-Q200; Frequency: NC; Mounting: SMT; Power: 1/10W; Type: NC; Alternate Part Number 1: *; Alternate Part Number 2: *; Tolerance: ±1%; Current: NC; Revision Date: 09/05/23; Package Reference: 0603; Voltage: NC
footprint R0603 (Footprint not found)
pins: 1, 2

## R2400RLF0603
designator R?  value 240
240 Ohms ±1% 0.1W, 1/10W Chip Resistor 0603 (1608 Metric) Automotive AEC-Q200 Thick Film; Manufacturer Part Number: ERJ-3EKF2400V; Manufacturer: Panasonic Electronic Components; Working Temperature: -55°C ~ 155°C; Temperature Coefficient: ±100ppm/°C; Short Description: RES SMD 240 OHM 1% 1/10W 0603; Ratings: REACH, ROHS3, AEC-Q200; Frequency: NC; Mounting: SMT; Power: 1/10W; Type: NC; Alternate Part Number 1: *; Alternate Part Number 2: *; Tolerance: ±1%; Current: NC; Revision Date: 02/08/21; Package Reference: 0603; Voltage: NC
footprint R0603 (Footprint not found)
pins: 1, 2

## R2402RLD0603W
designator R?  value 24k
24 kOhms ±0.5% 0.1W, 1/10W Chip Resistor 0603 (1608 Metric) - Thin Film; Manufacturer Part Number: RT0603DRD0724KL; Manufacturer: Yageo; Working Temperature: -55°C ~ 155°C; Temperature Coefficient: ±25ppm/°C; Short Description: RES SMD 24K OHM 0.5% 1/10W 0603; Ratings: REACH, ROHS3; Frequency: NC; Mounting: SMT; Power: 1/10W; Type: NC; Alternate Part Number 1: *; Alternate Part Number 2: *; Tolerance: ±0.5%; Current: NC; Revision Date: 02/08/21; Package Reference: 0603; Voltage: NC
footprint R0603 (Footprint not found)
pins: 1, 2

## R2432RLF0603
designator R?  value 24.3k
24.3 kOhms ±1% 0.1W, 1/10W Chip Resistor 0603 (1608 Metric) Automotive AEC-Q200 Thick Film; Manufacturer Part Number: ERJ-3EKF2432V; Manufacturer: Panasonic Electronic Components; Working Temperature: -55°C ~ 155°C; Temperature Coefficient: ±100ppm/°C; Short Description: RES SMD 24.3K OHM 1% 1/10W 0603; Ratings: REACH, ROHS3, AEC-Q200; Frequency: NC; Mounting: SMT; Power: 1/10W; Type: NC; Alternate Part Number 1: *; Alternate Part Number 2: *; Tolerance: ±1%; Current: NC; Revision Date: 02/08/21; Package Reference: 0603; Voltage: NC
footprint R0603 (Footprint not found)
pins: 1, 2

## R2491RLF0603
designator R?  value 2.49k
2.49 kOhms ±1% 0.1W, 1/10W Chip Resistor 0603 (1608 Metric) Automotive AEC-Q200 Thick Film; Manufacturer Part Number: ERJ-3EKF2491V; Manufacturer: Panasonic Electronic Components; Working Temperature: -55°C ~ 155°C; Temperature Coefficient: ±100ppm/°C; Short Description: RES SMD 2.49K OHM 1% 1/10W 0603; Ratings: REACH, ROHS3; Frequency: NC; Mounting: SMT; Power: 1/10W; Type: NC; Alternate Part Number 1: *; Alternate Part Number 2: *; Tolerance: ±1%; Current: NC; Revision Date: 11/05/22; Package Reference: 0603; Voltage: NC
footprint R0603 (Footprint not found)
pins: 1, 2

## R2492RLF0603
designator R?  value 24.9k
24.9 kOhms ±1% 0.1W, 1/10W Chip Resistor 0603 (1608 Metric) Automotive AEC-Q200 Thick Film; Manufacturer Part Number: ERJ-3EKF2492V; Manufacturer: Panasonic Electronic Components; Working Temperature: -55°C ~ 155°C; Temperature Coefficient: ±100ppm/°C; Short Description: RES SMD 24.9K OHM 1% 1/10W 0603; Ratings: REACH, ROHS3, AEC-Q200; Frequency: NC; Mounting: SMT; Power: 1/10W; Type: NC; Alternate Part Number 1: *; Alternate Part Number 2: *; Tolerance: ±1%; Current: NC; Revision Date: 02/08/21; Package Reference: 0603; Voltage: NC
footprint R0603 (Footprint not found)
pins: 1, 2

## R2551RLD0603W
designator R?  value 2.55k
2.55 kOhms ±0.5% 0.1W, 1/10W Chip Resistor 0603 (1608 Metric) - Thin Film; Manufacturer Part Number: RT0603DRD072K55L; Manufacturer: Yageo; Working Temperature: -55°C ~ 155°C; Temperature Coefficient: ±25ppm/°C; Short Description: RES SMD 2.55KOHM 0.5% 1/10W 0603; Ratings: REACH, ROHS3; Frequency: NC; Mounting: SMT; Power: 1/10W; Type: NC; Alternate Part Number 1: *; Alternate Part Number 2: *; Tolerance: ±0.5%; Current: NC; Revision Date: 02/08/21; Package Reference: 0603; Voltage: NC
footprint R0603 (Footprint not found)
pins: 1, 2

## R3002RLF0603
designator R?  value 30k
30 kOhms ±1% 0.1W, 1/10W Chip Resistor 0603 (1608 Metric) Automotive AEC-Q200 Thick Film; Manufacturer Part Number: ERJ-3EKF3002V; Manufacturer: Panasonic Electronic Components; Working Temperature: -55°C ~ 155°C; Temperature Coefficient: ±100ppm/°C; Short Description: RES SMD 30K OHM 1% 1/10W 0603; Ratings: REACH, ROHS3, AEC-Q200; Frequency: NC; Mounting: SMT; Power: 1/10W; Type: NC; Alternate Part Number 1: *; Alternate Part Number 2: *; Tolerance: ±1%; Current: NC; Revision Date: 02/08/21; Package Reference: 0603; Voltage: NC
footprint R0603 (Footprint not found)
pins: 1, 2

## R3162RLF0603
designator R?  value 31.6k
31.6 kOhms ±1% 0.1W, 1/10W Chip Resistor 0603 (1608 Metric) Automotive AEC-Q200 Thick Film; Manufacturer Part Number: ERJ-3EKF3162V; Manufacturer: Panasonic Electronic Components; Working Temperature: -55°C ~ 155°C; Temperature Coefficient: ±100ppm/°C; Short Description: RES SMD 31.6K OHM 1% 1/10W 0603; Ratings: REACH, ROHS3, AEC-Q200; Frequency: NC; Mounting: SMT; Power: 1/10W; Type: NC; Alternate Part Number 1: *; Alternate Part Number 2: *; Tolerance: ±1%; Current: NC; Revision Date: 02/08/21; Package Reference: 0603; Voltage: NC
footprint R0603 (Footprint not found)
pins: 1, 2

## R3243RLD0603W
designator R?  value 324k
324 kOhms ±0.5% 0.1W, 1/10W Chip Resistor 0603 (1608 Metric) - Thin Film; Manufacturer Part Number: RT0603DRD07324KL; Manufacturer: Yageo; Working Temperature: -55°C ~ 155°C; Temperature Coefficient: ±25ppm/°C; Short Description: RES SMD 324K OHM 0.5% 1/10W 0603; Ratings: REACH, ROHS3; Frequency: NC; Mounting: SMT; Power: 1/10W; Type: NC; Alternate Part Number 1: *; Alternate Part Number 2: *; Tolerance: ±0.5%; Current: NC; Revision Date: 02/08/21; Package Reference: 0603; Voltage: NC
footprint R0603 (Footprint not found)
pins: 1, 2

## R3301RLF0603W
designator R?  value 3.3k
3.3 kOhms ±1% 0.1W, 1/10W Chip Resistor 0603 (1608 Metric) Moisture Resistant Thick Film; Manufacturer Part Number: RC0603FR-073K3L; Manufacturer: Yageo; Working Temperature: -55°C ~ 155°C; Temperature Coefficient: ±100ppm/°C; Short Description: RES SMD 3.3K OHM 1% 1/10W 0603; Ratings: REACH, ROHS3; Frequency: NC; Mounting: SMT; Power: 1/10W; Type: NC; Alternate Part Number 1: *; Alternate Part Number 2: *; Tolerance: ±1%; Current: NC; Revision Date: 02/08/21; Package Reference: 0603; Voltage: NC
footprint R0603 (Footprint not found)
pins: 1, 2

## R3321RLF0603
designator R?  value 3.32k
3.32 kOhms ±1% 0.1W, 1/10W Chip Resistor 0603 (1608 Metric) Automotive AEC-Q200 Thick Film; Manufacturer Part Number: ERJ-3EKF3321V; Manufacturer: Panasonic Electronic Components; Working Temperature: -55°C ~ 155°C; Temperature Coefficient: ±100ppm/°C; Short Description: RES SMD 3.32K OHM 1% 1/10W 0603; Ratings: REACH, ROHS3, AEC-Q200; Frequency: NC; Mounting: SMT; Power: 1/10W; Type: NC; Alternate Part Number 1: *; Alternate Part Number 2: *; Tolerance: ±1%; Current: NC; Revision Date: 02/08/21; Package Reference: 0603; Voltage: NC
footprint R0603 (Footprint not found)
pins: 1, 2

## R3323RLD0603W
designator R?  value 332k
332 kOhms ±0.5% 0.1W, 1/10W Chip Resistor 0603 (1608 Metric) - Thin Film; Manufacturer Part Number: RT0603DRD07332KL; Manufacturer: Yageo; Working Temperature: -55°C ~ 155°C; Temperature Coefficient: ±25ppm/°C; Short Description: RES SMD 332K OHM 0.5% 1/10W 0603; Ratings: REACH, ROHS3; Frequency: NC; Mounting: SMT; Power: 1/10W; Type: NC; Alternate Part Number 1: *; Alternate Part Number 2: *; Tolerance: ±0.5%; Current: NC; Revision Date: 02/08/21; Package Reference: 0603; Voltage: NC
footprint R0603 (Footprint not found)
pins: 1, 2

## R3833RLF0603
designator R?  value 383k
383 kOhms ±1% 0.1W, 1/10W Chip Resistor 0603 (1608 Metric) Automotive AEC-Q200 Thick Film; Manufacturer Part Number: ERJ-3EKF3833V; Manufacturer: Panasonic Electronic Components; Working Temperature: -55°C ~ 155°C; Temperature Coefficient: ±100ppm/°C; Short Description: RES SMD 383K OHM 1% 1/10W 0603; Ratings: REACH, ROHS3, AEC-Q200; Frequency: NC; Mounting: SMT; Power: 1/10W; Type: NC; Alternate Part Number 1: *; Alternate Part Number 2: *; Tolerance: ±1%; Current: NC; Revision Date: 09/05/23; Package Reference: 0603; Voltage: NC
footprint R0603 (Footprint not found)
pins: 1, 2

## R3901RLD0603W
designator R?  value 3.9k
3.9 kOhms ±0.5% 0.1W, 1/10W Chip Resistor 0603 (1608 Metric) - Thin Film; Manufacturer Part Number: RT0603DRD073K9L; Manufacturer: Yageo; Working Temperature: -55°C ~ 155°C; Temperature Coefficient: ±25ppm/°C; Short Description: RES SMD 3.9K OHM 0.5% 1/10W 0603; Ratings: REACH, ROHS3; Frequency: NC; Mounting: SMT; Power: 1/10W; Type: NC; Alternate Part Number 1: *; Alternate Part Number 2: *; Tolerance: ±0.5%; Current: NC; Revision Date: 02/08/21; Package Reference: 0603; Voltage: NC
footprint R0603 (Footprint not found)
pins: 1, 2

## R3922RLF0603
designator R?  value 39.2k
39.2 kOhms ±1% 0.1W, 1/10W Chip Resistor 0603 (1608 Metric) Automotive AEC-Q200 Thick Film; Manufacturer Part Number: ERJ-3EKF3922V; Manufacturer: Panasonic Electronic Components; Working Temperature: -55°C ~ 155°C; Temperature Coefficient: ±100ppm/°C; Short Description: RES SMD 39.2K OHM 1% 1/10W 0603; Ratings: REACH, ROHS3, AEC-Q200; Frequency: NC; Mounting: SMT; Power: 1/10W; Type: NC; Alternate Part Number 1: *; Alternate Part Number 2: *; Tolerance: ±1%; Current: NC; Revision Date: 02/08/21; Package Reference: 0603; Voltage: NC
footprint R0603 (Footprint not found)
pins: 1, 2

## R4021RLF0603
designator R?  value 4.02k
4.02 kOhms ±1% 0.1W, 1/10W Chip Resistor 0603 (1608 Metric) Automotive AEC-Q200 Thick Film; Manufacturer Part Number: ERJ-3EKF4021V; Manufacturer: Panasonic Electronic Components; Working Temperature: -55°C ~ 155°C; Temperature Coefficient: ±100ppm/°C; Short Description: RES SMD 4.02K OHM 1% 1/10W 0603; Ratings: REACH, ROHS3, AEC-Q200; Frequency: NC; Mounting: SMT; Power: 1/10W; Type: NC; Alternate Part Number 1: *; Alternate Part Number 2: *; Tolerance: ±1%; Current: NC; Revision Date: 02/08/21; Package Reference: 0603; Voltage: NC
footprint R0603 (Footprint not found)
pins: 1, 2

## R4022RLF0603
designator R?  value 40.2k
40.2 kOhms ±1% 0.1W, 1/10W Chip Resistor 0603 (1608 Metric) Automotive AEC-Q200 Thick Film; Manufacturer Part Number: ERJ-3EKF4022V; Manufacturer: Panasonic Electronic Components; Working Temperature: -55°C ~ 155°C; Temperature Coefficient: ±100ppm/°C; Short Description: RES SMD 40.2K OHM 1% 1/10W 0603; Ratings: REACH, ROHS3, AEC-Q200; Frequency: NC; Mounting: SMT; Power: 1/10W; Type: NC; Alternate Part Number 1: *; Alternate Part Number 2: *; Tolerance: ±1%; Current: NC; Revision Date: 02/08/21; Package Reference: 0603; Voltage: NC
footprint R0603 (Footprint not found)
pins: 1, 2

## R4023RMF0603W
designator R?  value 402k
402 kOhms ±1% 0.125W, 1/8W Chip Resistor 0805 (2012 Metric) Moisture Resistant Thick Film; Manufacturer Part Number: RC0805FR-07402KL; Manufacturer: YAGEO; Working Temperature: -55°C ~ 155°C; Temperature Coefficient: ±100ppm/°C; Short Description: RES 402K OHM 1% 1/8W 0805; Ratings: REACH, ROHS3; Frequency: NC; Mounting: SMT; Power: 1/8W; Type: NC; Alternate Part Number 1: *; Alternate Part Number 2: *; Tolerance: ±1%; Current: NC; Revision Date: 24/11/21; Package Reference: 0603; Voltage: NC
footprint R0603 (Footprint not found)
pins: 1, 2

## R4122RLF0603
designator R?  value 41.2k  (hidden comment: R4122RLF0603)
41.2 kOhms ±1% 0.1W, 1/10W Chip Resistor 0603 (1608 Metric) Automotive AEC-Q200 Thick Film; Manufacturer Part Number: ERJ-3EKF4122V; Manufacturer: Panasonic Electronic Components; Working Temperature: -55°C ~ 155°C; Temperature Coefficient: ±100ppm/°C; Short Description: RES SMD 41.2K OHM 1% 1/10W 0603; Ratings: REACH, ROHS3, AEC-Q200; Frequency: NC; Mounting: SMT; Power: 1/10W; Type: NC; Alternate Part Number 1: *; Alternate Part Number 2: *; Tolerance: ±1%; Current: NC; Revision Date: 02/08/21; Package Reference: 0603; Voltage: NC
footprint R0603 (Footprint not found)
pins: 1, 2

## R4221RLF0603
designator R?  value 4.22k
4.22 kOhms ±1% 0.1W, 1/10W Chip Resistor 0603 (1608 Metric) Automotive AEC-Q200 Thick Film; Manufacturer Part Number: ERJ-3EKF4221V; Manufacturer: Panasonic Electronic Components; Working Temperature: -55°C ~ 155°C; Temperature Coefficient: ±100ppm/°C; Short Description: RES SMD 4.22K OHM 1% 1/10W 0603; Ratings: REACH, ROHS3, AEC-Q200; Frequency: NC; Mounting: SMT; Power: 1/10W; Type: NC; Alternate Part Number 1: *; Alternate Part Number 2: *; Tolerance: ±1%; Current: NC; Revision Date: 02/08/21; Package Reference: 0603; Voltage: NC
footprint R0603 (Footprint not found)
pins: 1, 2

## R4301RLF0603
designator R?  value 4.3k
4.3 kOhms ±1% 0.1W, 1/10W Chip Resistor 0603 (1608 Metric) Automotive AEC-Q200 Thick Film; Manufacturer Part Number: ERJ-3EKF4301V; Manufacturer: Panasonic Electronic Components; Working Temperature: -55°C ~ 155°C; Temperature Coefficient: ±100ppm/°C; Short Description: RES SMD 4.3K OHM 1% 1/10W 0603; Ratings: REACH, ROHS3, AEC-Q200; Frequency: NC; Mounting: SMT; Power: 1/10W; Type: NC; Alternate Part Number 1: *; Alternate Part Number 2: *; Tolerance: ±1%; Current: NC; Revision Date: 02/08/21; Package Reference: 0603; Voltage: NC
footprint R0603 (Footprint not found)
pins: 1, 2

## R4530RLF0603
designator R?  value 453
453 Ohms ±1% 0.1W, 1/10W Chip Resistor 0603 (1608 Metric) Automotive AEC-Q200 Thick Film; Manufacturer Part Number: ERJ-3EKF4530V; Manufacturer: Panasonic Electronic Components; Working Temperature: -55°C ~ 155°C; Temperature Coefficient: ±100ppm/°C; Short Description: RES SMD 453 OHM 1% 1/10W 0603; Ratings: REACH, ROHS3, AEC-Q200; Frequency: NC; Mounting: SMT; Power: 1/10W; Type: NC; Alternate Part Number 1: *; Alternate Part Number 2: *; Tolerance: ±1%; Current: NC; Revision Date: 02/08/21; Package Reference: 0603; Voltage: NC
footprint R0603 (Footprint not found)
pins: 1, 2

## R4532RLF0603
designator R?  value 45.3k
45.3 kOhms ±1% 0.1W, 1/10W Chip Resistor 0603 (1608 Metric) Automotive AEC-Q200 Thick Film; Manufacturer Part Number: ERJ-3EKF4532V; Manufacturer: Panasonic Electronic Components; Working Temperature: -55°C ~ 155°C; Temperature Coefficient: ±100ppm/°C; Short Description: RES SMD 45.3K OHM 1% 1/10W 0603; Ratings: REACH, ROHS3, AEC-Q200; Frequency: NC; Mounting: SMT; Power: 1/10W; Type: NC; Alternate Part Number 1: *; Alternate Part Number 2: *; Tolerance: ±1%; Current: NC; Revision Date: 02/08/21; Package Reference: 0603; Voltage: NC
footprint R0603 (Footprint not found)
pins: 1, 2

## R4642RLF0603
designator R?  value 46.4k  (hidden comment: R4642RLF0603)
46.4 kOhms ±1% 0.1W, 1/10W Chip Resistor 0603 (1608 Metric) - Thin Film; Manufacturer Part Number: ERJ-3EKF4642V; Manufacturer: Panasonic; Working Temperature: -55°C ~ 155°C; Temperature Coefficient: ±100ppm/°C; Short Description: RES SMD 46.4 KOHM 1% 1/10W 0603; Ratings: REACH, ROHS3; Frequency: NC; Mounting: SMT; Power: 1/10W; Type: NC; Alternate Part Number 1: *; Alternate Part Number 2: *; Tolerance: ±1%; Current: NC; Revision Date: 02/08/21; Package Reference: 0603; Voltage: NC
footprint R0603 (Footprint not found)
pins: 1, 2

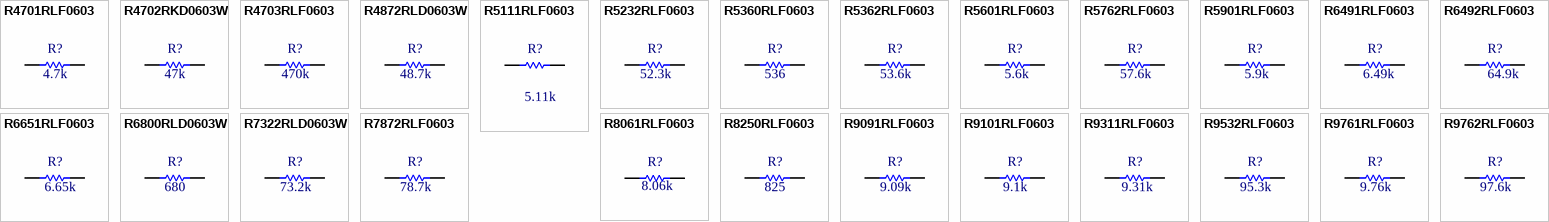
[diagram p2: symbols R4701RLF0603 to R9762RLF0603]